# EAGLE library part CONNECTOR_DM3AT-SF-PEJM5 (library BA Parts)
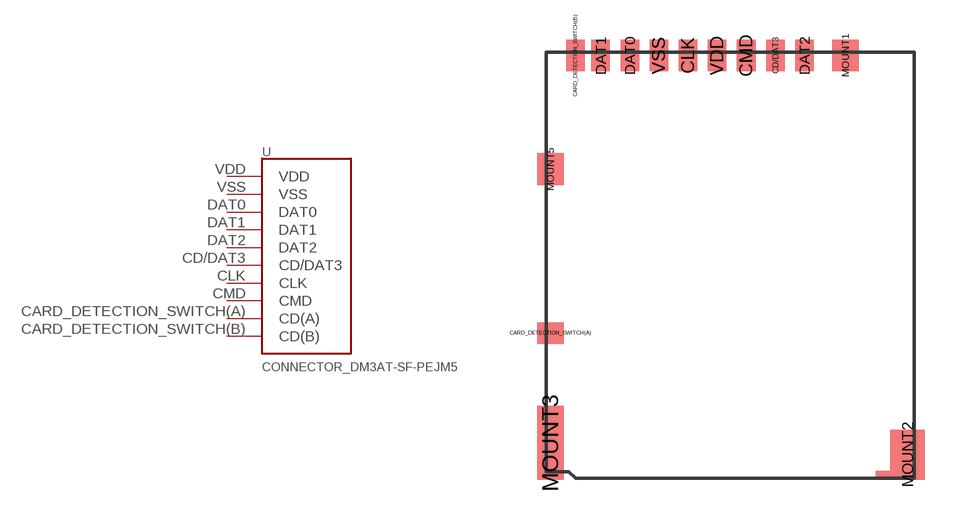
[diagram p6: symbol with the pads of DM3AT-SF-PEJM5; footprint DM3AT-SF-PEJM5]

Designator prefix -

## CONNECTOR_DM3AT-SF-PEJM5  [DM3AT-SF-PEJM5]
CARD_DETECTION_SWITCH(A)  CD(A)
CARD_DETECTION_SWITCH(B)  CD(B)
CD/DAT3  CD/DAT3
CLK  CLK
CMD  CMD
DAT0  DAT0
DAT1  DAT1
DAT2  DAT2
VDD  VDD
VSS  VSS

## Footprint DM3AT-SF-PEJM5 (pad centres in mm)
smd 1 x 0.8: CARD_DETECTION_SWITCH(A) -9.6,-9.9
smd 0.7 x 1.2: CARD_DETECTION_SWITCH(B) -8.65,0.6; CD/DAT3 -1.1,0.6; CLK -4.4,0.6; CMD -2.2,0.6; DAT0 -6.6,0.6; DAT1 -7.7,0.6; DAT2 0,0.6; VDD -3.3,0.6; VSS -5.5,0.6
smd 1 x 1.2: MOUNT1 1.55,0.6; MOUNT5 -9.6,-3.7
smd 1.3 x 1.9: MOUNT2 3.9,-14.5
smd 1 x 2.8: MOUNT3 -9.6,-14.05